# Altium schematic symbol library Charger.SchLib: 1 symbol
Pins are listed as number, name and electrical type; pins without a type are passive.

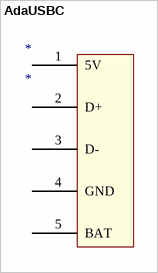
[diagram p0: symbol AdaUSBC]

## AdaUSBC
designator *
footprint AdaUSBC
pins: 1 5V, 2 D+, 3 D-, 4 GND, 5 BAT